# EAGLE library part SAMACSYS_PARTS_93AA66AT-I_OT (library Local Compute Module)
4K, 512 X 8 SERIAL EEPROM,1.8V,IND Source: Datasheet <http://ww1.microchip.com/downloads/en/DeviceDoc/21795E.pdf>
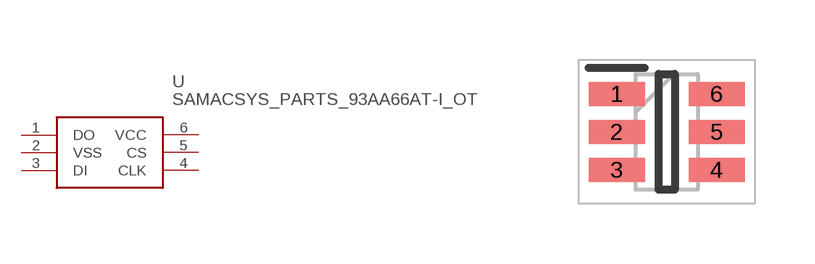
[diagram p18: symbol with the pads of SAMACSYS_PARTS_SOT95P270X145-6N; footprint SAMACSYS_PARTS_SOT95P270X145-6N]

Designator prefix U

## SAMACSYS_PARTS_93AA66AT-I_OT (DIGIKEY: 93AA66AT-I/OTCT-ND; MANUFACTURE: Microchip; MPN: 93AA66AT-I/OT)  [SAMACSYS_PARTS_SOT95P270X145-6N]
1  DO
2  VSS
3  DI
4  CLK
5  CS
6  VCC

## Footprint SAMACSYS_PARTS_SOT95P270X145-6N (pad centres in mm)
93AA66AT-I/OT
smd 1.4 x 0.6: 1 -1.25,0.95; 2 -1.25,0; 3 -1.25,-0.95; 4 1.25,-0.95; 5 1.25,0; 6 1.25,0.95